# Altium integrated library AD7768-4BSTZ (1).IntLib: 1 symbol
Pins are listed as number, name and electrical type; pins without a type are passive.

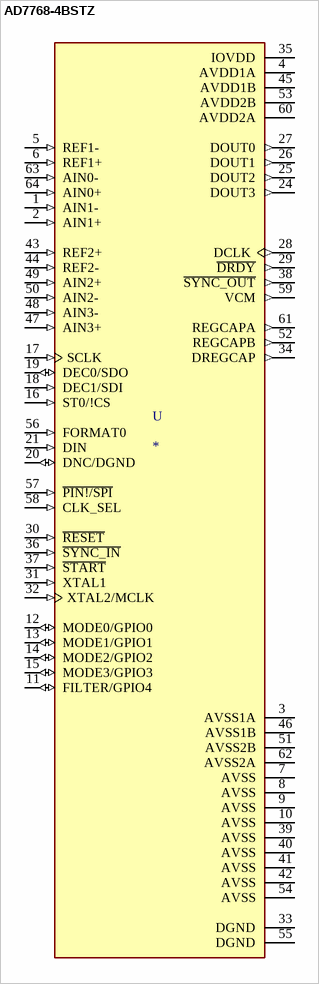
[diagram p0: symbol AD7768-4BSTZ]

## AD7768-4BSTZ
designator U
24 Bit Analog to Digital Converter 4 Input 4 Sigma-Delta 64-LQFP _10x10_; MF: Analog Devices; MP: AD7768-4BSTZ; Digi-Key_Purchase_URL: https://www.digikey.com/product-detail/en/analog-devices-inc/AD7768-4BSTZ/AD7768-4BSTZ-ND/6072260?utm_source=snapeda&utm_medium=aggregator&utm_campaign=symbol; Package: LQFP -64 Analog Devices; SnapEDA_Link: https://www.snapeda.com/parts/AD7768-4BSTZ/Analog%20Devices%20Inc./view-part/501603/?ref=snap; Value: *; Digi-Key_Part_Number: AD7768-4BSTZ-ND
footprint QFP50P1200X1200X160-64N
pins: 1 AIN1- (in), 2 AIN1+ (in), 3 AVSS1A (power), 4 AVDD1A (power), 5 REF1- (in), 6 REF1+ (in), 7 AVSS (power), 8 AVSS (power), 9 AVSS (power), 10 AVSS (power), 11 FILTER/GPIO4 (io), 12 MODE0/GPIO0 (io), 13 MODE1/GPIO1 (io), 14 MODE2/GPIO2 (io), 15 MODE3/GPIO3 (io), 16 ST0/!CS (in), 17 SCLK (in), 18 DEC1/SDI (in), 19 DEC0/SDO (io), 20 DNC/DGND (io), 21 DIN (in), 24 DOUT3 (out), 25 DOUT2 (out), 26 DOUT1 (out), 27 DOUT0 (out), 28 DCLK (out), 29 ~{DRDY} (out), 30 ~{RESET} (in), 31 XTAL1 (in), 32 XTAL2/MCLK (in), 33 DGND (power), 34 DREGCAP (out), 35 IOVDD (power), 36 ~{SYNC_IN} (in), 37 ~{START} (in), 38 ~{SYNC_OUT} (out), 39 AVSS (power), 40 AVSS (power), 41 AVSS (power), 42 AVSS (power), 43 REF2+ (in), 44 REF2- (in), 45 AVDD1B (power), 46 AVSS1B (power), 47 AIN3+ (in), 48 AIN3- (in), 49 AIN2+ (in), 50 AIN2- (in), 51 AVSS2B (power), 52 REGCAPB (out), 53 AVDD2B (power), 54 AVSS (power), 55 DGND (power), 56 FORMAT0 (in), 57 ~{PIN!/SPI} (in), 58 CLK_SEL (in), 59 VCM (out), 60 AVDD2A (power), 61 REGCAPA (out), 62 AVSS2A (power), 63 AIN0- (in), 64 AIN0+ (in)